# Altium footprint library TSSOP20.PcbLib: 1 footprints
Each footprint in its own frame and in the unit in brackets; x right, y up, seen from the top. Pads: shape width x height; smd on the part's side, far side on the other; paste and mask are expansions set on the pad; w line width, h text height; cw(c..) or ccw(c..) is an arc to the next point about the centre after c.
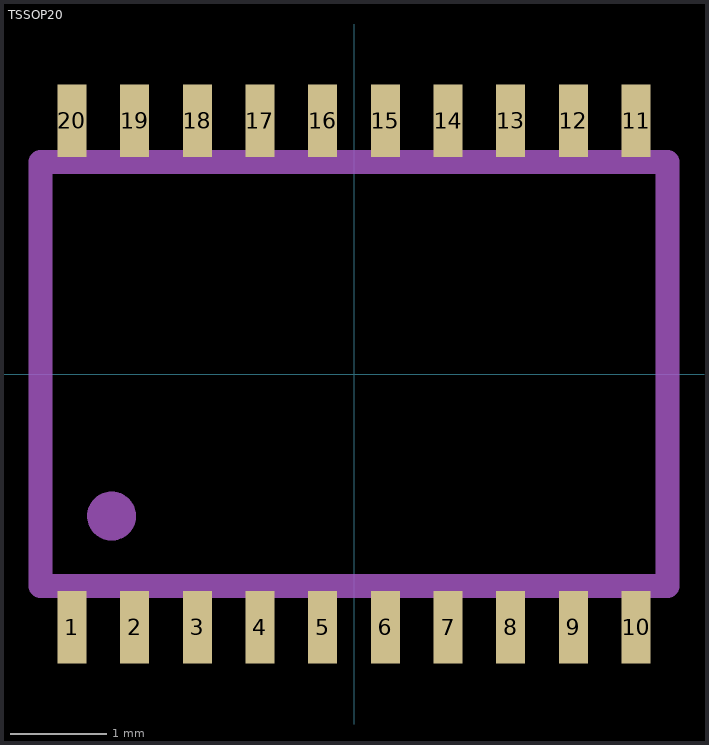
[diagram p0: the footprint, top view; thin cyan lines are the x and y axes]

## TSSOP20 [mm]
pads (20):
  rect 0.3x0.75 smd: 1(-2.925,-2.625) 2(-2.275,-2.625) 3(-1.625,-2.625) 4(-0.975,-2.625) 5(-0.325,-2.625) 6(0.325,-2.625) 7(0.975,-2.625) 8(1.625,-2.625) 9(2.275,-2.625) 10(2.925,-2.625) 11(2.925,2.625) 12(2.275,2.625) 13(1.625,2.625) 14(0.975,2.625) 15(0.325,2.625) 16(-0.325,2.625) 17(-0.975,2.625) 18(-1.625,2.625) 19(-2.275,2.625) 20(-2.925,2.625)
Mechanical 1:
  lines w0.25: -3.25,-2.2 3.25,-2.2 3.25,2.2 -3.25,2.2 -3.25,-2.2
  lines w0.254: -2.388,-1.473 cw(c-2.515,-1.473) -2.388,-1.461